# Altium footprint library DRV8871DDAR.PcbLib: 2 footprints
Each footprint in its own frame and in the unit in brackets; x right, y up, seen from the top. Pads: shape width x height; smd on the part's side, far side on the other; paste and mask are expansions set on the pad; w line width, h text height; cw(c..) or ccw(c..) is an arc to the next point about the centre after c.
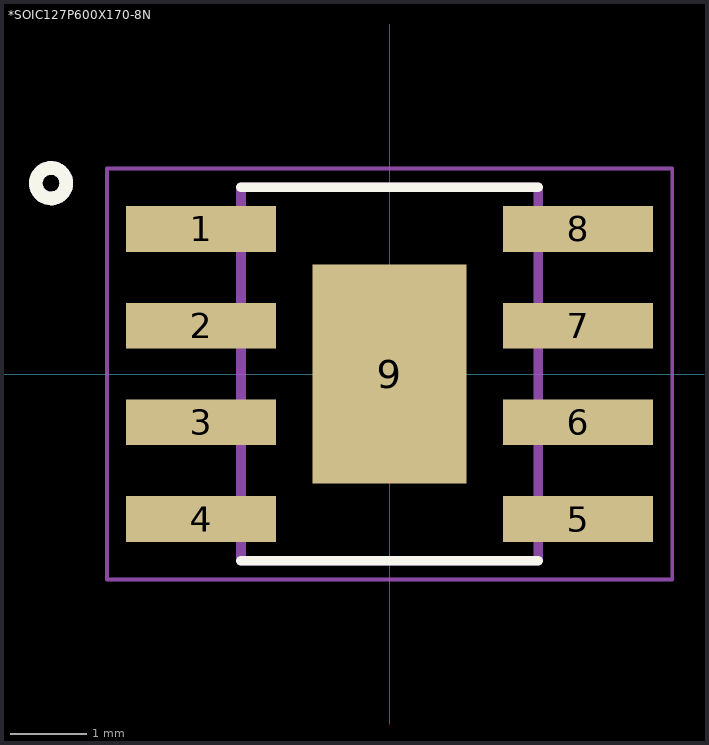
[diagram p0: the footprints below, top view; thin cyan lines are the x and y axes]

## *SOIC127P600X170-8N [mm]
pads (9):
  rect 1.97x0.6 smd: 1(-2.475,1.905) 2(-2.475,0.635) 3(-2.475,-0.635) 4(-2.475,-1.905) 5(2.475,-1.905) 6(2.475,-0.635) 7(2.475,0.635) 8(2.475,1.905)
  rect 2.02x2.87 smd: 9(0,0)
Top Overlay:
  circle w0.18: c-4.445,2.505 r0.2
  lines w0.127: -1.95,-2.45 1.95,-2.45 ; -1.95,2.45 1.95,2.45
Top Paste:
  region: 0.115,-0.115 0.785,-0.115 0.785,-1.205 0.115,-1.205
  region: -0.785,-0.115 -0.115,-0.115 -0.115,-1.205 -0.785,-1.205
  region: -0.785,1.205 -0.115,1.205 -0.115,0.115 -0.785,0.115
  region: 0.115,1.205 0.785,1.205 0.785,0.115 0.115,0.115
Mechanical 4:
  circle w0.18: c-4.445,2.505 r0.2
  circle w0.18: c-4.445,2.505 r0.2
  lines w0.127: -1.95,-2.45 -1.95,2.45 ; -1.95,-2.45 1.95,-2.45 ; -1.95,-2.45 -1.95,2.45 ; -1.95,-2.45 1.95,-2.45 ; -1.95,2.45 1.95,2.45 ; -1.95,2.45 1.95,2.45 ; 1.95,-2.45 1.95,2.45 ; 1.95,-2.45 1.95,2.45
Mechanical 16:
  lines w0.05: -3.71,-2.7 -3.71,2.7 3.71,2.7 3.71,-2.7 -3.71,-2.7

## PCBComponent_1 [mm]